# Altium schematic symbol library Schlib1.SchLib: 151 symbols (part 1 of 2)
Pins are listed as number, name and electrical type; pins without a type are passive.

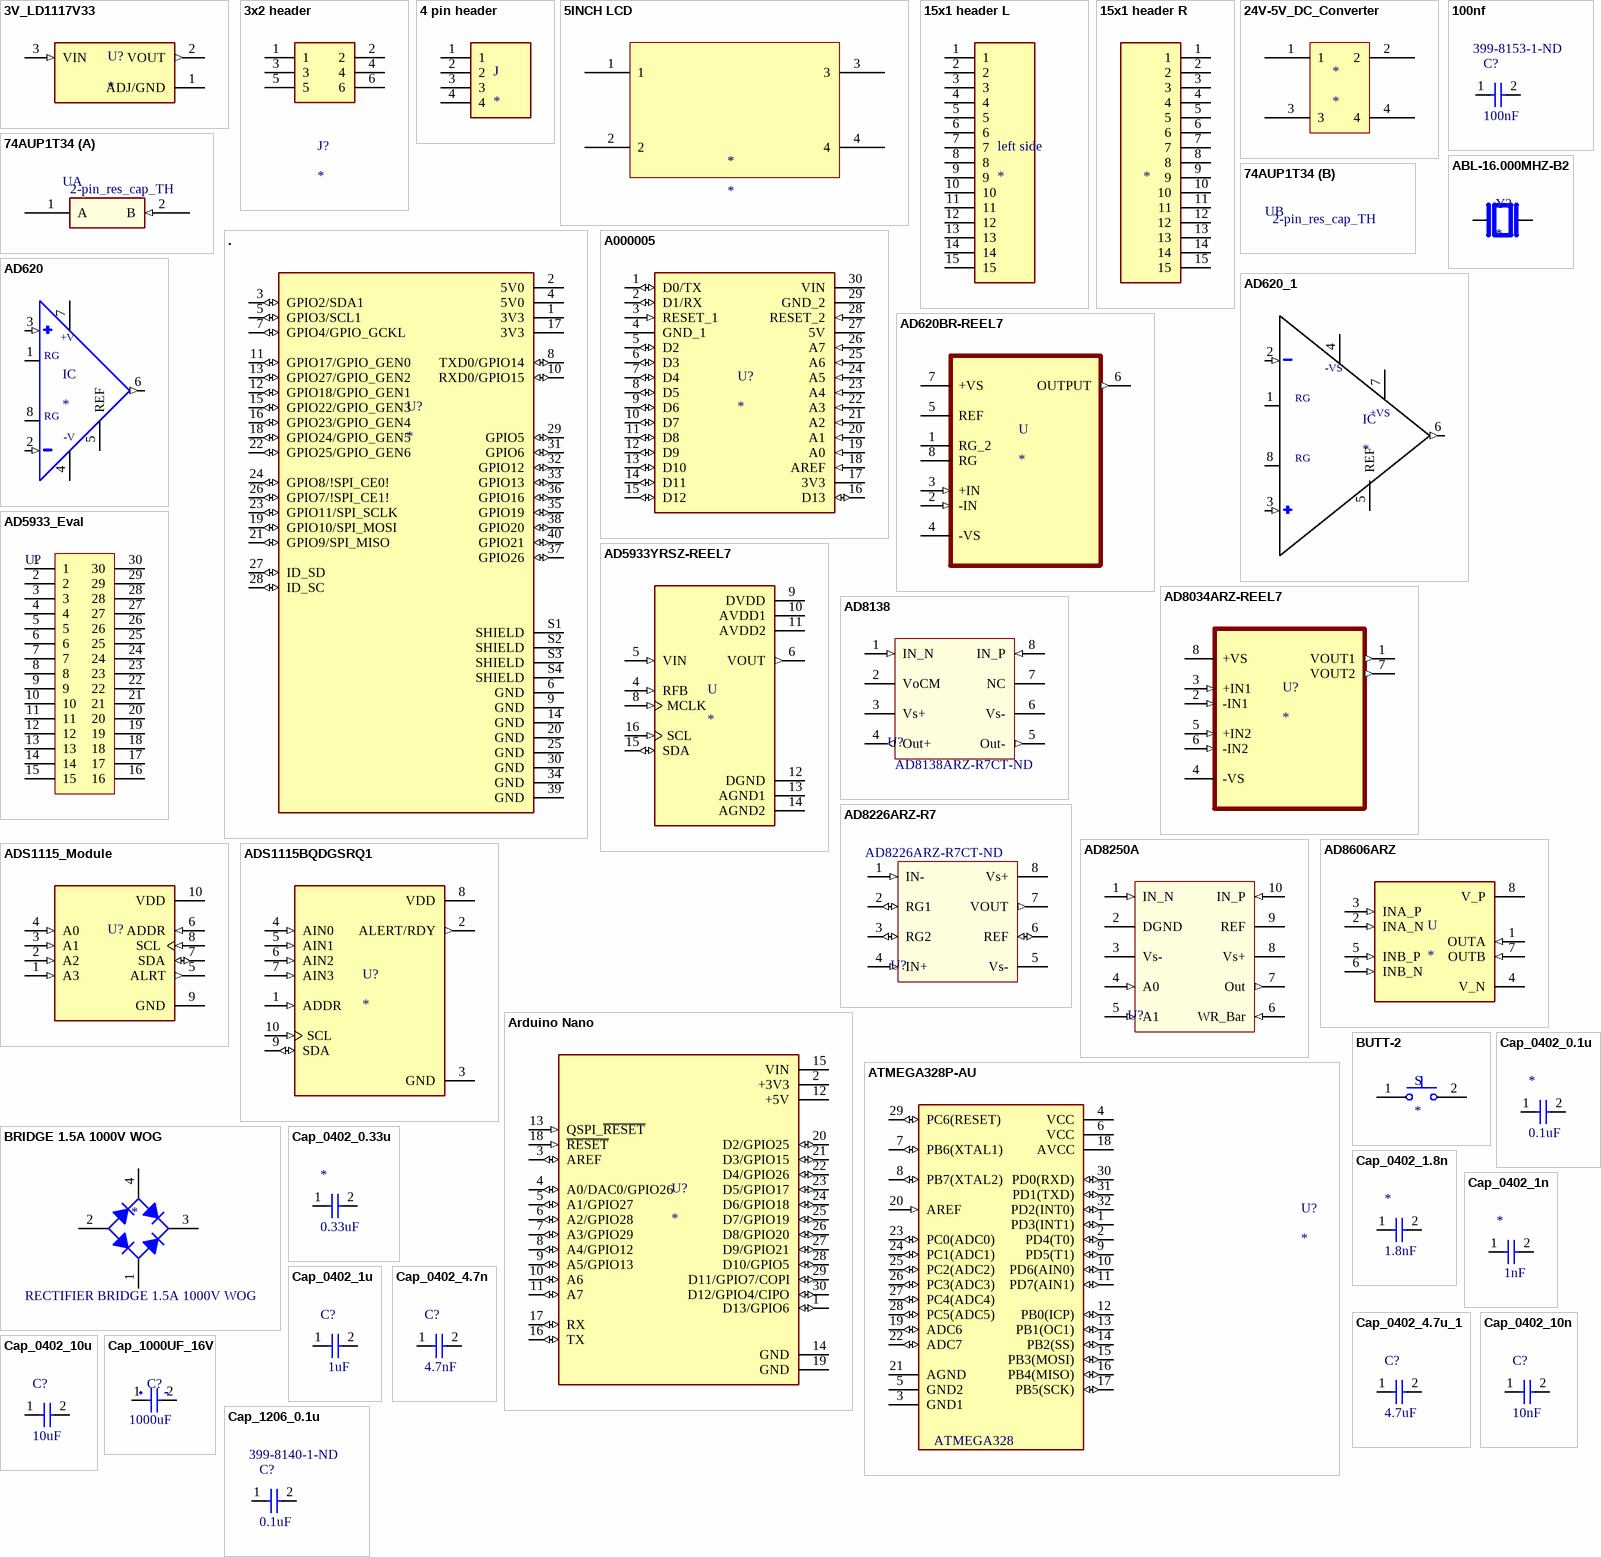
[diagram p0: symbols 3V_LD1117V33 to Cap_1206_0.1u]

## 3V_LD1117V33
designator U?
MP: LD1117V33; Package: None; Price: None; Availability: Unavailable; Value: *
footprint 3V_LD1117_TO255P1020X450X1968-3
pins: 1 ADJ/GND, 2 VOUT (out), 3 VIN (in)

## 3x2 header
designator J?
MP: 1-85829-5; Package: None; Price: None; Value: *; Availability: Unavailable
footprint 3x2 header
pins: 1, 2, 3, 4, 5, 6

## 4 pin header
designator J
TERMI-BLOK HEADER,ASSY90 4P.; MF: TE Connectivity; MP: 282822-4; SnapEDA_Link: https://www.snapeda.com/parts/282822-4/TE%20Connectivity%20AMP%20Connectors/view-part/2404770/?ref=snap; EU_RoHS_Compliance: Compliant; Value: *; DigiKey-Purchase-URL: https://snapeda.com/shop?store=DigiKey&id=2404770; Package: None; Price: None; Availability: Good; Mouser-Purchase-URL: https://snapeda.com/shop?store=Mouser&id=2404770
footprint TE_282822-4
pins: 1, 2, 3, 4

## 5INCH LCD
designator *
footprint 5 Inch LCD (AD5933_Eval)
pins: 1, 2, 3, 4

## 15x1 header L
designator left side
MP: 1-85829-5; Package: None; Price: None; Value: *; Availability: Unavailable
footprint 15x1 header
pins: 1, 2, 3, 4, 5, 6, 7, 8, 9, 10, 11, 12, 13, 14, 15

## 15x1 header R
designator ?
MP: 1-85829-5; Package: None; Price: None; Value: *; Availability: Unavailable
footprint 15x1 header
pins: 1, 2, 3, 4, 5, 6, 7, 8, 9, 10, 11, 12, 13, 14, 15

## 24V-5V_DC_Converter
designator *
footprint 12/5vDC convertor
pins: 1, 2, 3, 4

## 74AUP1T34
designator U, comment 2-pin_res_cap_TH
IC BUFFER LOW PWR N-INV 5TSSOP; Supplier 1: Digi-Key; Supplier Part Number 1: 1727-6030-1-ND; Value: 2-pin_res_cap_TH
footprint 2-pin_res_cap_TH (through hole res-cap)
part A pins: 1 A, 2 B (in)

## 100nf
designator C?, comment Supplier Part Number 1: 399-8153-1-ND  (hidden comment: 100nF)
CAP CER 10UF 6.3V X5R 1206; Supplier 1: Digi-Key; Value: 100nF
footprint 1206 (Chip Capacitor, 2-Leads, Body 3.10x1.60mm, IPC Medium Density)
pins: 1, 2

## .
designator U?
BCM2837B0 Raspberry Pi 3 Model B+ - ARMÂ® CortexÂ®-A53, VideoCore MPU Embedded Evaluation Board; MP: RASPBERRY PI 3 MODEL B+; SnapEDA_Link: https://www.snapeda.com/parts/RASPBERRY%20PI%203%20MODEL%20B+/Raspberry%20Pi/view-part/4299836/?ref=snap; Package: Raspberry Pi; MF: Raspberry Pi; Value: *; Digi-Key_Part_Number: 1690-1025-ND; Check_prices: https://www.snapeda.com/parts/RASPBERRY%20PI%203%20MODEL%20B+/Raspberry%20Pi/view-part/4299836/?ref=eda; Supplier 1: RSComponents; Supplier Part Number 1: 1373331
footprint RPi_3b_p
pins: 1 3V3 (power), 2 5V0 (power), 3 GPIO2/SDA1 (io), 4 5V0 (power), 5 GPIO3/SCL1 (io), 6 GND (power), 7 GPIO4/GPIO_GCKL (io), 8 TXD0/GPIO14 (io), 9 GND (power), 10 RXD0/GPIO15 (io), 11 GPIO17/GPIO_GEN0 (io), 12 GPIO18/GPIO_GEN1 (io), 13 GPIO27/GPIO_GEN2 (io), 14 GND (power), 15 GPIO22/GPIO_GEN3 (io), 16 GPIO23/GPIO_GEN4 (io), 17 3V3 (power), 18 GPIO24/GPIO_GEN5 (io), 19 GPIO10/SPI_MOSI (io), 20 GND (power), 21 GPIO9/SPI_MISO (io), 22 GPIO25/GPIO_GEN6 (io), 23 GPIO11/SPI_SCLK (io), 24 GPIO8/!SPI_CE0! (io), 25 GND (power), 26 GPIO7/!SPI_CE1! (io), 27 ID_SD (io), 28 ID_SC (io), 29 GPIO5 (io), 30 GND (power), 31 GPIO6 (io), 32 GPIO12 (io), 33 GPIO13 (io), 34 GND (power), 35 GPIO19 (io), 36 GPIO16 (io), 37 GPIO26 (io), 38 GPIO20 (io), 39 GND (power), 40 GPIO21 (io), S1 SHIELD (power), S2 SHIELD (power), S3 SHIELD (power), S4 SHIELD (power)

## A000005
designator U?
CLOCK SAW OSCILLATOR SEAM7050 T&; MP: A000005; Value: *; Package: None; Availability: Unavailable; Price: None
footprint MODULE_A000005
pins: 1 D0/TX (io), 2 D1/RX (io), 3 RESET_1 (in), 4 GND_1 (power), 5 D2 (io), 6 D3 (io), 7 D4 (io), 8 D5 (io), 9 D6 (io), 10 D7 (io), 11 D8 (io), 12 D9 (io), 13 D10 (io), 14 D11 (io), 15 D12 (io), 16 D13 (io), 17 3V3 (power), 18 AREF (in), 19 A0 (in), 20 A1 (in), 21 A2 (in), 22 A3 (in), 23 A4 (in), 24 A5 (in), 25 A6 (in), 26 A7 (in), 27 5V (power), 28 RESET_2 (in), 29 GND_2 (power), 30 VIN (power)

## ABL-16.000MHZ-B2
designator Y?
HC/49US (AT49) MICROPROCESSOR CRYSTAL; MP: ABL-16.000MHZ-B2; MF: Abracon; Availability: In Stock; SnapEDA_Link: https://www.snapeda.com/parts/ABL-16.000MHZ-B2/Abracon+LLC/view-part/?ref=snap; Price: None; Value: *; Check_prices: https://www.snapeda.com/parts/ABL-16.000MHZ-B2/Abracon+LLC/view-part/?ref=eda; Purchase-URL: https://pricing.snapeda.com/search/part/ABL-16.000MHZ-B2/?ref=eda; Package: HC-49/US ABRACON
footprint ABL 16mhz
pins: 1, 2

## AD620
designator IC
Instrumentation Amplifier 1 Circuit 8-SOIC; MP: AD620; MF: Analog Devices; Availability: Unavailable; Price: None; Package: TSSOP-8 Analog Devices; Value: *; SnapEDA_Link: https://www.snapeda.com/parts/AD620/Analog%20Devices%20Inc./view-part/559692/?ref=snap
footprint ad8034 SOIC127P600X175-8N
pins: 1 RG@1, 2 NEG (in), 3 POS (in), 4 -V (power), 5 REF, 6 OUT (out), 7 +V (power), 8 RG@2
text: RG

## AD620_1
designator IC
Instrumentation Amplifier 1 Circuit 8-SOIC; MP: AD620; MF: Analog Devices; Availability: Unavailable; Price: None; Package: TSSOP-8 Analog Devices; Value: *; SnapEDA_Link: https://www.snapeda.com/parts/AD620/Analog%20Devices%20Inc./view-part/559692/?ref=snap
footprint AD620_SOIC127P600X175-8N
pins: 1 RG@1, 2 NEG (in), 3 POS (in), 4 -V (power), 5 REF, 6 OUT (out), 7 +V (power), 8 RG@2
text: -VS; RG; +VS

## AD620BR-REEL7
designator U
Instrumentation Amplifier 1 Circuit 8-SOIC; MF: Analog Devices; MP: AD620BR; Price: None; Package: SOIC-8 Analog Devices; Availability: Unavailable; SnapEDA_Link: https://www.snapeda.com/parts/AD620BR/Analog%20Devices%20Inc./view-part/7466/?ref=snap; Value: *
footprint AD620_SOIC127P600X175-8N
pins: 1 RG_2, 2 -IN (in), 3 +IN (in), 4 -VS (power), 5 REF, 6 OUTPUT (out), 7 +VS (power), 8 RG

## AD5933_Eval
designator U?, comment BOARD EVALUATION FOR AD5933  (value not drawn)
AD5933 Impedance Converter Interface Evaluation Board; Value: Header 2; LatestRevisionDate: 17-Jul-2002; LatestRevisionNote: Re-released for DXP Platform.; Publisher: Altium Limited; Supplier 1: Digi-Key; Supplier Part Number 1: 505-EVAL-AD5933EBZ-ND
footprint AD5933_Eval
pins: 1, 2, 3, 4, 5, 6, 7, 8, 9, 10, 11, 12, 13, 14, 15, 16, 17, 18, 19, 20, 21, 22, 23, 24, 25, 26, 27, 28, 29, 30

## AD5933YRSZ-REEL7
designator U
Direct Digital Synthesis IC 12 b 16.776MHz Tuning 16-SSOP; MF: Analog Devices; MP: AD5933YRSZ; SnapEDA_Link: https://www.snapeda.com/parts/AD5933YRSZ/Analog%20Devices%20Inc./view-part/512306/?ref=snap; Package: SSOP-16 Analog Devices; Price: None; Availability: Unavailable; Value: *
footprint SOP65P780X200-16N
pins: 4 RFB (in), 5 VIN (in), 6 VOUT (out), 8 MCLK (in), 9 DVDD (power), 10 AVDD1 (power), 11 AVDD2 (power), 12 DGND (power), 13 AGND1 (power), 14 AGND2 (power), 15 SDA (io), 16 SCL (in)

## AD8034ARZ-REEL7
designator U?
Voltage Feedback Amplifier 2 Circuit Rail-to-Rail 8-SOIC; MF: Analog Devices; MP: AD8034ARZ; Package: SOIC-8 Analog Devices; Price: None; Availability: In Stock; Check_prices: https://www.snapeda.com/parts/AD8034ARZ/Analog%20Devices%20Inc./view-part/343726/?ref=eda; SnapEDA_Link: https://www.snapeda.com/parts/AD8034ARZ/Analog%20Devices%20Inc./view-part/343726/?ref=snap; Value: *
footprint ad8034 SOIC127P600X175-8N
pins: 1 VOUT1 (out), 2 -IN1 (in), 3 +IN1 (in), 4 -VS (power), 5 +IN2 (in), 6 -IN2 (in), 7 VOUT2 (out), 8 +VS (power)

## AD8138
designator U?  Supplier Part Number 1: AD8138ARZ-R7CT-ND
FullyDifferential Amplifier, 1 Circuit, Adjustable output common-mode voltage, MaxSupply ±5V; Supplier 1: Digi-Key
footprint AD8138 (SOIC, 8-Leads, Body 5.00x4.00mm, Pitch 1.27mm, IPC High Density)
pins: 1 IN_N (in), 2 VoCM (power), 3 Vs+ (power), 4 Out+ (out), 5 Out- (out), 6 Vs- (power), 7 NC (power), 8 IN_P (in)

## AD8226ARZ-R7
designator U?  Supplier Part Number 1: AD8226ARZ-R7CT-ND
Instrumentation Amplifier 1 Circuit Rail-to-Rail 8-SOIC; Supplier 1: Digi-Key
footprint AD8138 (SOIC, 8-Leads, Body 5.00x4.00mm, Pitch 1.27mm, IPC High Density)
pins: 1 IN- (in), 2 RG1 (io), 3 RG2 (io), 4 IN+ (in), 5 Vs- (power), 6 REF (io), 7 VOUT (out), 8 Vs+ (power)

## AD8250A
designator U?
Instrumentation Amplifier 1 Circuit Push-Pull 10-MSOP 10MHz, ±5V ~ 15V; Supplier 1: Mouser; Supplier Part Number 1: 584-AD8250ARMZ-R7
footprint AD8250A (Instrumentation Amplifier 1 Circuit Push-Pull 10-MSOP)
pins: 1 IN_N (in), 2 DGND (power), 3 Vs- (power), 4 A0 (in), 5 A1 (in), 6 WR_Bar (in), 7 Out (out), 8 Vs+ (power), 9 REF (power), 10 IN_P (in)

## AD8606ARZ
designator U
Amplificador de Uso Geral 2 Circuito Rail-to-Rail 8-SOIC; MF: Analog Devices; MP: AD8606ARZ; Value: *; Package: SOIC-8 Analog Devices; Price: None; Availability: Unavailable; SnapEDA_Link: https://www.snapeda.com/parts/AD8606ARZ/Analog%20Devices%20Inc./view-part/43414/?ref=snap
footprint SOIC127P600X175-8N
pins: 1 OUTA (in), 2 INA_N (in), 3 INA_P (in), 4 V_N (power), 5 INB_P (in), 6 INB_N (in), 7 OUTB (in), 8 V_P (power)

## ADS1115_Module
designator U?, comment ADS1115 - 16 Bit  (value not drawn)
ADS1115 - 16 Bit 860 Samples per Second Analog to Digital Converter (ADC) Evaluation Board; MP: 1085; MF: Adafruit Industries; Mouser-Purchase-URL: https://snapeda.com/shop?store=Mouser&id=378491; Availability: Warning; Price: None; Package: None; Value: *; SnapEDA_Link: https://www.snapeda.com/parts/1085/Adafruit%20Industries%20LLC/view-part/378491/?ref=snap; Supplier 1: Digi-Key; Supplier Part Number 1: 1528-1461-ND
footprint ADS1115_Module
pins: 1 A3 (in), 2 A2 (in), 3 A1 (in), 4 A0 (in), 5 ALRT (out), 6 ADDR (in), 7 SDA (io), 8 SCL (in), 9 GND (power), 10 VDD (power)

## ADS1115BQDGSRQ1
designator U?
Automotive 16-Bit 860SPS 4-Ch Delta-Sigma ADC With PGA, Oscillator, Vref, Comparator, and I2C 10-VSSOP -40 to 125; MF: Texas Instruments; MP: ADS1115BQDGSRQ1; Purchase-URL: https://pricing.snapeda.com/search/part/ADS1115BQDGSRQ1/?ref=eda; Value: *; SnapEDA_Link: https://www.snapeda.com/parts/ADS1115BQDGSRQ1/Texas%20Instruments/view-part/631441/?ref=snap; Package: VSSOP-10 Texas Instruments; Availability: Good; Price: None; Check_prices: https://www.snapeda.com/parts/ADS1115BQDGSRQ1/Texas%20Instruments/view-part/631441/?ref=eda
footprint SOP50P490X110-10N
pins: 1 ADDR (in), 2 ALERT/RDY (out), 3 GND (power), 4 AIN0 (in), 5 AIN1 (in), 6 AIN2 (in), 7 AIN3 (in), 8 VDD (power), 9 SDA (io), 10 SCL (in)

## Arduino Nano
designator U?
ARDUINO NANO RP2040 CONNECT WITH; MP: ABX00053; Package: None; Price: None; Availability: Unavailable; Value: *
footprint MODULE_ABX00053
pins: 1 D13/GPIO6 (io), 2 +3V3 (power), 3 AREF (io), 4 A0/DAC0/GPIO26 (io), 5 A1/GPIO27 (io), 6 A2/GPIO28 (io), 7 A3/GPIO29 (io), 8 A4/GPIO12 (io), 9 A5/GPIO13 (io), 10 A6 (io), 11 A7 (io), 12 +5V (power), 13 QSPI_~{RESET} (in), 14 GND (power), 15 VIN (power), 16 TX (io), 17 RX (io), 18 ~{RESET} (in), 19 GND (power), 20 D2/GPIO25 (io), 21 D3/GPIO15 (io), 22 D4/GPIO26 (io), 23 D5/GPIO17 (io), 24 D6/GPIO18 (io), 25 D7/GPIO19 (io), 26 D8/GPIO20 (io), 27 D9/GPIO21 (io), 28 D10/GPIO5 (io), 29 D11/GPIO7/COPI (io), 30 D12/GPIO4/CIPO (io)

## ATMEGA328P-AU
designator U?
ATmega Series 20 MHz 32 KB Flash 2 KB SRAM 8-Bit Microcontroller - TQFP-32; MP: ATMEGA328P-AU; Value: *; Availability: Unavailable; Price: None; Package: None
footprint ATMEGA328
pins: 1 PD3(INT1) (io), 2 PD4(T0) (io), 3 GND1 (power), 4 VCC (power), 5 GND2 (power), 6 VCC (power), 7 PB6(XTAL1) (io), 8 PB7(XTAL2) (io), 9 PD5(T1) (io), 10 PD6(AIN0) (io), 11 PD7(AIN1) (io), 12 PB0(ICP) (io), 13 PB1(OC1) (io), 14 PB2(SS) (io), 15 PB3(MOSI) (io), 16 PB4(MISO) (io), 17 PB5(SCK) (io), 18 AVCC (power), 19 ADC6 (io), 20 AREF (in), 21 AGND (power), 22 ADC7 (io), 23 PC0(ADC0) (io), 24 PC1(ADC1) (io), 25 PC2(ADC2) (io), 26 PC3(ADC3) (io), 27 PC4(ADC4) (io), 28 PC5(ADC5) (io), 29 PC6(RESET) (io), 30 PD0(RXD) (io), 31 PD1(TXD) (io), 32 PD2(INT0) (io)
text: ATMEGA328

## BRIDGE 1.5A 1000V WOG
designator *, comment RECTIFIER BRIDGE 1.5A 1000V WOG
Supplier 1: Digi-Key; Supplier Part Number 1: W10G-E4/51GI-ND; Value: RECTIFIER BRIDGE 1.5A 1000V WOG
footprint BRIDGE 1.5A 1000V WOG (Bridge Rectifier Single Phase 1000V 1.5A Through Hole WOG)
pins: 1 AC2, 2 -, 3 +, 4 AC1

## BUTT-2
designator S
Tactile Switches MINI PUSH BUTTON SWITCH 2-PIN QTY. 4; MF: Gravitech; MP: BUTT-2; Mouser-Purchase-URL: https://snapeda.com/shop?store=Mouser&id=885822; Price: None; Package: None; Value: *; SnapEDA_Link: https://www.snapeda.com/parts/BUTT-2/Gravitech/view-part/885822/?ref=snap; Availability: Warning
footprint SW_BUTT-2 pin
pins: 1, 2

## Cap_0402_0.1u
designator *, comment 0.1uF
CAP CER 0.1UF 16V X7R 0402; Supplier 1: Digi-Key; Supplier Part Number 1: 445-5613-1-ND; Value: 0.1uF
footprint 0402 (Chip Capacitor, Body 1.0x0.5mm, IPC High Density)
pins: 1, 2

## Cap_0402_0.33u
designator *, comment 0.33uF
CAP CER 0.33UF 25V X5R 0402; Supplier 1: Digi-Key; Supplier Part Number 1: 445-8018-1-ND; Value: 0.33uF
footprint 0402 (Chip Capacitor, Body 1.0x0.5mm, IPC High Density)
pins: 1, 2

## Cap_0402_1.8n
designator *, comment 1.8nF
CAP CER 1800PF 50V X7R 0402; Supplier 1: Digi-Key; Supplier Part Number 1: 311-1721-1-ND; Value: 1.8nF
footprint 0402 (Chip Capacitor, Body 1.0x0.5mm, IPC High Density)
pins: 1, 2

## Cap_0402_1n
designator *, comment 1nF
CAP CER 1000PF 25V C0G 0402; Supplier 1: Digi-Key; Supplier Part Number 1: 445-2651-1-ND; Value: 1nF
footprint 0402 (Chip Capacitor, Body 1.0x0.5mm, IPC High Density)
pins: 1, 2

## Cap_0402_1u
designator C?, comment 1uF
CAP CER 1UF 25V X5R 0402; Supplier 1: Digi-Key; Supplier Part Number 1: 445-9081-1-ND; Value: 1uF
footprint 0402 (Chip Capacitor, Body 1.0x0.5mm, IPC High Density)
pins: 1, 2

## Cap_0402_4.7n
designator C?, comment 4.7nF
CAP CER 4700PF 50V X7R 0402; Supplier 1: Digi-Key; Supplier Part Number 1: 445-5607-1-ND; Value: 4.7nF
footprint 0402 (Chip Capacitor, Body 1.0x0.5mm, IPC High Density)
pins: 1, 2

## Cap_0402_4.7u_1
designator C?, comment 4.7uF
CAP CER 4.7UF 6.3V X5R 0402; Supplier 1: Digi-Key; Supplier Part Number 1: 445-5947-1-ND; Value: 4.7uF
footprint 0402 (Chip Capacitor, Body 1.0x0.5mm, IPC High Density)
pins: 1, 2

## Cap_0402_10n
designator C?, comment 10nF
CAP CER 10000PF 100V X7S 0402; Supplier 1: Digi-Key; Supplier Part Number 1: 445-5199-1-ND; Value: 10nF
footprint 0402 (Chip Capacitor, Body 1.0x0.5mm, IPC High Density)
pins: 1, 2

## Cap_0402_10u
designator C?, comment 10uF
CAP CER 10UF 6.3V X5R 0402; Supplier 1: Digi-Key; Supplier Part Number 1: 445-8920-1-ND; Value: 10uF
footprint 0402 (Chip Capacitor, Body 1.0x0.5mm, IPC High Density)
pins: 1, 2

## Cap_1000UF_16V
designator C?, comment 1000uF
1000µF 16V Aluminum Capacitors Radial, Can 5000 Hrs @ 105°C; Supplier 1: Digi-Key; Supplier Part Number 1: P19698CT-ND; Value: 1000uF
footprint Cap_RB/5-10 (CAP ALUM 1000UF 20% 16V RADIAL_ 1000µF 16V Aluminum Capacitors Radial, Can 5000 Hrs @ 105°C)
pins: 1, 2

## Cap_1206_0.1u
designator C?, comment Supplier Part Number 1: 399-8140-1-ND  (hidden comment: 0.1uF)
CAP CER 0.1UF 16V X7R 1206; Supplier 1: Digi-Key; Value: 0.1uF
footprint 1206 (Chip Capacitor, 2-Leads, Body 3.10x1.60mm, IPC Medium Density)
pins: 1, 2

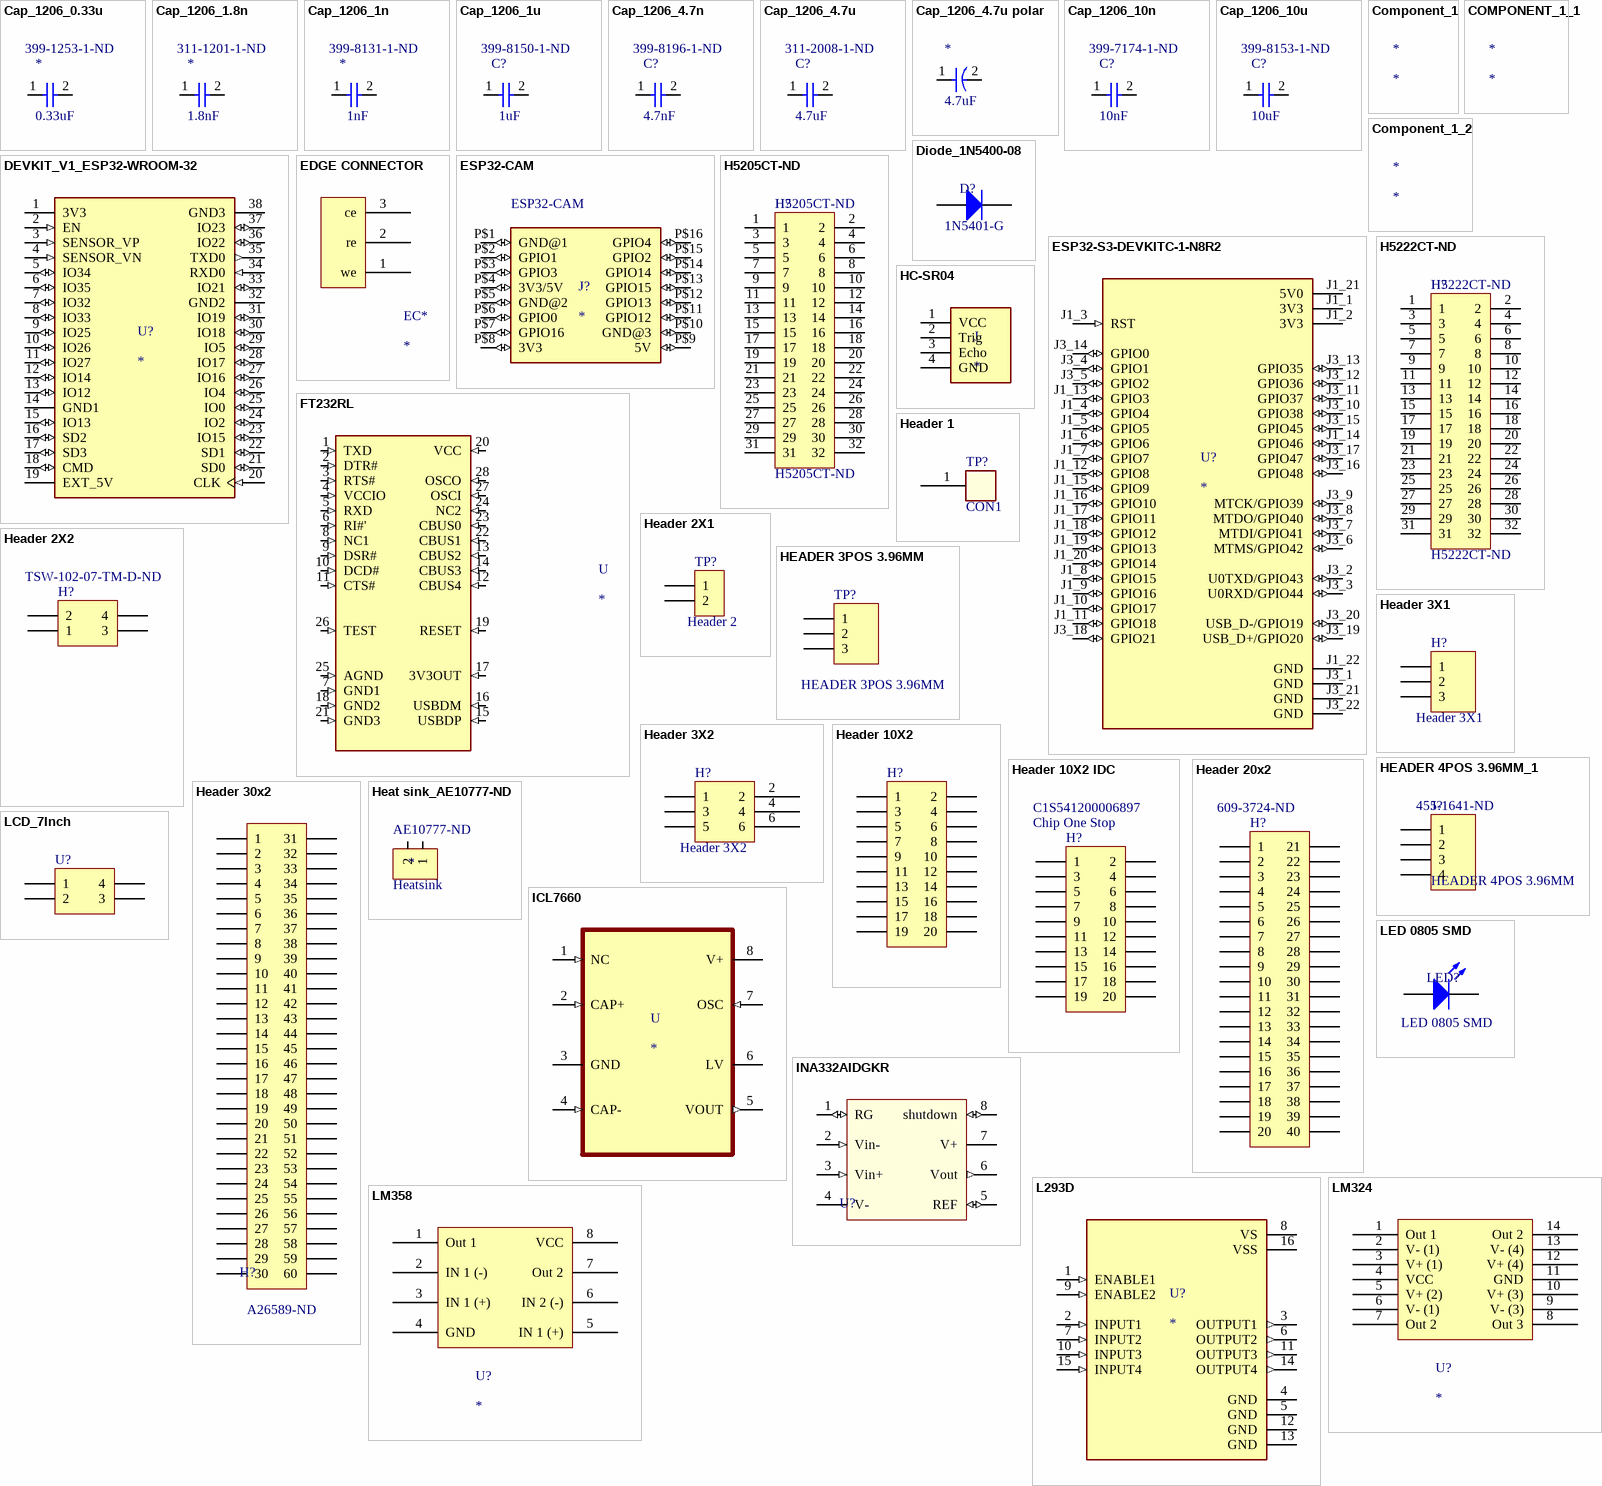
[diagram p1: symbols Cap_1206_0.33u to LM358]

## Cap_1206_0.33u
designator *, comment Supplier Part Number 1: 399-1253-1-ND  (hidden comment: 0.33uF)
CAP CER 0.33UF 25V X5R 1206; Supplier 1: Digi-Key; Value: 0.33uF
footprint 1206 (Chip Capacitor, 2-Leads, Body 3.10x1.60mm, IPC Medium Density)
pins: 1, 2

## Cap_1206_1.8n
designator *, comment Supplier Part Number 1: 311-1201-1-ND  (hidden comment: 1.8nF)
CAP CER 1800PF 50V X7R 1206; Supplier 1: Digi-Key; Value: 1.8nF
footprint 1206 (Chip Capacitor, 2-Leads, Body 3.10x1.60mm, IPC Medium Density)
pins: 1, 2

## Cap_1206_1n
designator *, comment Supplier Part Number 1: 399-8131-1-ND  (hidden comment: 1nF)
CAP CER 1000PF 25V C0G 1206; Supplier 1: Digi-Key; Value: 1nF
footprint 1206 (Chip Capacitor, 2-Leads, Body 3.10x1.60mm, IPC Medium Density)
pins: 1, 2

## Cap_1206_1u
designator C?, comment Supplier Part Number 1: 399-8150-1-ND  (hidden comment: 1uF)
CAP CER 1UF 25V X5R 1206; Supplier 1: Digi-Key; Value: 1uF
footprint 1206 (Chip Capacitor, 2-Leads, Body 3.10x1.60mm, IPC Medium Density)
pins: 1, 2

## Cap_1206_4.7n
designator C?, comment Supplier Part Number 1: 399-8196-1-ND  (hidden comment: 4.7nF)
CAP CER 4700PF 50V X7R 1206; Supplier 1: Digi-Key; Value: 4.7nF
footprint 1206 (Chip Capacitor, 2-Leads, Body 3.10x1.60mm, IPC Medium Density)
pins: 1, 2

## Cap_1206_4.7u
designator C?, comment Supplier Part Number 1: 311-2008-1-ND  (hidden comment: 4.7uF)
CAP CER 4.7UF 6.3V X5R 1206; Supplier 1: Digi-Key; Value: 4.7uF
footprint 1206 (Chip Capacitor, 2-Leads, Body 3.10x1.60mm, IPC Medium Density)
pins: 1, 2

## Cap_1206_4.7u polar
designator *, comment 4.7uF
CAP CER 0.1UF 16V X7R 0402; Supplier 1: Digi-Key; Supplier Part Number 1: 445-5613-1-ND; Value: 4.7uF
footprint 1206 (Chip Capacitor, 2-Leads, Body 3.10x1.60mm, IPC Medium Density)
pins: 1, 2

## Cap_1206_10n
designator C?, comment Supplier Part Number 1: 399-7174-1-ND  (hidden comment: 10nF)
CAP CER 10000PF 100V X7S 1206; Supplier 1: Digi-Key; Value: 10nF
footprint 1206 (Chip Capacitor, 2-Leads, Body 3.10x1.60mm, IPC Medium Density)
pins: 1, 2

## Cap_1206_10u
designator C?, comment Supplier Part Number 1: 399-8153-1-ND  (hidden comment: 10uF)
CAP CER 10UF 6.3V X5R 1206; Supplier 1: Digi-Key; Value: 10uF
footprint 1206 (Chip Capacitor, 2-Leads, Body 3.10x1.60mm, IPC Medium Density)
pins: 1, 2

## Component_1
designator *

## COMPONENT_1_1
designator *

## Component_1_2
designator *

## DEVKIT_V1_ESP32-WROOM-32
designator U?
WROOM-32 Development Board ESP32 ESP-32S WiFi Bluetooth Dev Module; MF: Espressif Systems; MP: DEVKIT V1 ESP32-WROOM-32; SnapEDA_Link: https://www.snapeda.com/parts/DEVKIT%20V1%20ESP32-WROOM-32/Espressif+Systems/view-part/?ref=snap; Package: Package; Value: *; Check_prices: https://www.snapeda.com/parts/DEVKIT%20V1%20ESP32-WROOM-32/Espressif+Systems/view-part/?ref=eda
footprint MODULE_DEVKIT_V1_ESP32-WROOM-32
pins: 1 3V3 (power), 2 EN (in), 3 SENSOR_VP (in), 4 SENSOR_VN (in), 5 IO34 (io), 6 IO35 (io), 7 IO32 (io), 8 IO33 (io), 9 IO25 (io), 10 IO26 (io), 11 IO27 (io), 12 IO14 (io), 13 IO12 (io), 14 GND1 (power), 15 IO13 (io), 16 SD2 (io), 17 SD3 (io), 18 CMD (io), 19 EXT_5V (power), 20 CLK (in), 21 SD0 (io), 22 SD1 (io), 23 IO15 (io), 24 IO2 (io), 25 IO0 (io), 26 IO4 (io), 27 IO16 (io), 28 IO17 (io), 29 IO5 (io), 30 IO18 (io), 31 IO19 (io), 32 GND2 (power), 33 IO21 (io), 34 RXD0 (in), 35 TXD0 (out), 36 IO22 (io), 37 IO23 (io), 38 GND3 (power)

## Diode_1N5400-08
designator D?, comment 1N5401-G
Diode Standard 100V 3A Through Hole DO-27 (DO-201AD); Supplier 1: Digi-Key; Supplier Part Number 1: 641-1314-1-ND; Value: 1N5401-G
footprint 1N5401-G_DO-27 (DO-201AD)
pins: 1 A, 2 K

## EDGE CONNECTOR
designator EC*
footprint EDGE CONNECTOR (SWITCH TOGGLE DPDT 50MA 48V Toggle Switch DPDT Through Hole)
pins: 1 we, 2 re, 3 ce

## ESP32-CAM
designator J?
ESP32 ESP32 Transceiver; 802.11 a/b/g/n (Wi-Fi, WiFi, WLAN), BluetoothÂ® Smart 4.x Low Energy (BLE) Evaluation Board; MF: AI-Thinker; MP: ESP32-CAM; SnapEDA_Link: https://www.snapeda.com/parts/ESP32-CAM/AI-Thinker/view-part/?ref=snap; Package: None; Value: *; Check_prices: https://www.snapeda.com/parts/ESP32-CAM/AI-Thinker/view-part/?ref=eda
footprint ESP32-CAM
pins: P$1 GND@1 (io), P$2 GPIO1 (io), P$3 GPIO3 (io), P$4 3V3/5V (io), P$5 GND@2 (io), P$6 GPIO0 (io), P$7 GPIO16 (io), P$8 3V3 (io), P$9 5V (io), P$10 GND@3 (io), P$11 GPIO12 (io), P$12 GPIO13 (io), P$13 GPIO15 (io), P$14 GPIO14 (io), P$15 GPIO2 (io), P$16 GPIO4 (io)

## ESP32-S3-DEVKITC-1-N8R2
designator U?
WiFi Development Tools - 802.11 (Engineering Samples Only) ESP32-S3 General-Purpose Development Board, ESP32-S3-WROOM-1-N8R2, with Pin Header; MF: Espressif Systems; MP: ESP32-S3-DEVKITC-1-N8R2; SnapEDA_Link: https://www.snapeda.com/parts/ESP32-S3-DEVKITC-1-N8R2/Espressif+Systems/view-part/?ref=snap; Package: None; Value: *; Check_prices: https://www.snapeda.com/parts/ESP32-S3-DEVKITC-1-N8R2/Espressif+Systems/view-part/?ref=eda
footprint XCVR_ESP32-S3-DEVKITC-1-N8R2
pins: J1_1 3V3 (power), J1_2 3V3 (power), J1_3 RST (in), J1_4 GPIO4 (io), J1_5 GPIO5 (io), J1_6 GPIO6 (io), J1_7 GPIO7 (io), J1_8 GPIO15 (io), J1_9 GPIO16 (io), J1_10 GPIO17 (io), J1_11 GPIO18 (io), J1_12 GPIO8 (io), J1_13 GPIO3 (io), J1_14 GPIO46 (io), J1_15 GPIO9 (io), J1_16 GPIO10 (io), J1_17 GPIO11 (io), J1_18 GPIO12 (io), J1_19 GPIO13 (io), J1_20 GPIO14 (io), J1_21 5V0 (power), J1_22 GND (power), J3_1 GND (power), J3_2 U0TXD/GPIO43 (io), J3_3 U0RXD/GPIO44 (io), J3_4 GPIO1 (io), J3_5 GPIO2 (io), J3_6 MTMS/GPIO42 (io), J3_7 MTDI/GPIO41 (io), J3_8 MTDO/GPIO40 (io), J3_9 MTCK/GPIO39 (io), J3_10 GPIO38 (io), J3_11 GPIO37 (io), J3_12 GPIO36 (io), J3_13 GPIO35 (io), J3_14 GPIO0 (io), J3_15 GPIO45 (io), J3_16 GPIO48 (io), J3_17 GPIO47 (io), J3_18 GPIO21 (io), J3_19 USB_D+/GPIO20 (io), J3_20 USB_D-/GPIO19 (io), J3_21 GND (power), J3_22 GND (power)

## FT232RL
designator U
USB Bridge, USB to UART USB 2.0 UART Interface 28-SSOP; MP: FT232RL; MF: FTDI, Future; SnapEDA_Link: https://www.snapeda.com/parts/FT232RL/FTDI%2C%20Future%20Technology%20Devices%20International%20Ltd/view-part/1077088/?ref=snap; Package: SSOP-28 FTDI, Future; Price: None; Value: *; Availability: Unavailable
footprint ft232rl
pins: 1 TXD (in), 2 DTR# (in), 3 RTS# (in), 4 VCCIO (in), 5 RXD (in), 6 RI#' (in), 7 GND1 (in), 8 NC1 (in), 9 DSR# (in), 10 DCD# (in), 11 CTS# (in), 12 CBUS4 (in), 13 CBUS2 (in), 14 CBUS3 (in), 15 USBDP (in), 16 USBDM (in), 17 3V3OUT (in), 18 GND2 (in), 19 RESET (in), 20 VCC (in), 21 GND3 (in), 22 CBUS1 (in), 23 CBUS0 (in), 24 NC2 (in), 25 AGND (in), 26 TEST (in), 27 OSCI (in), 28 OSCO (in)

## H5205CT-ND
designator H?
CONN RCPT 32POS SMD GOLD Center Strip Contacts; LatestRevisionDate: 17-Jul-2002; LatestRevisionNote: Re-released for DXP Platform.; Publisher: Altium Limited; Supplier 1: Digi-Key; Value: H5205CT-ND; Supplier Part Number 1: H5205CT-ND
footprint H5205CT-ND (32 Position Connector Receptacle, Center Strip Contacts Surface Mount Gold)
pins: 1, 2, 3, 4, 5, 6, 7, 8, 9, 10, 11, 12, 13, 14, 15, 16, 17, 18, 19, 20, 21, 22, 23, 24, 25, 26, 27, 28, 29, 30, 31, 32

## H5222CT-ND
designator H?
CONN HDR 32POS SMD GOLD OUTER SHROUD; LatestRevisionDate: 17-Jul-2002; LatestRevisionNote: Re-released for DXP Platform.; Publisher: Altium Limited; Supplier 1: Digi-Key; Value: H5222CT-ND; Supplier Part Number 1: H5222CT-ND
footprint H5222CT-ND (3 32 Position Connector Header, Outer Shroud Contacts Surface Mount Gold)
pins: 1, 2, 3, 4, 5, 6, 7, 8, 9, 10, 11, 12, 13, 14, 15, 16, 17, 18, 19, 20, 21, 22, 23, 24, 25, 26, 27, 28, 29, 30, 31, 32

## HC-SR04
designator J
TERMI-BLOK HEADER,ASSY90 4P.; MF: TE Connectivity; MP: 282822-4; SnapEDA_Link: https://www.snapeda.com/parts/282822-4/TE%20Connectivity%20AMP%20Connectors/view-part/2404770/?ref=snap; EU_RoHS_Compliance: Compliant; Value: *; DigiKey-Purchase-URL: https://snapeda.com/shop?store=DigiKey&id=2404770; Package: None; Price: None; Availability: Good; Mouser-Purchase-URL: https://snapeda.com/shop?store=Mouser&id=2404770
footprint TE_282822-4
pins: 1 VCC, 2 Trig, 3 Echo, 4 GND

## Header 1
designator TP?, comment CON1
CONN HEADER 1POS .100" SINGL TIN; Supplier 1: Digi-Key; Supplier Part Number 1: SAM1035-01-ND; Value: CON1
footprint CON1 (Connector; Header; 1 Position)
pins: 1

## Header 2X1
designator TP?, comment Header 2
CONN HEADER 2POS .100" SINGL TIN; LatestRevisionDate: 17-Jul-2002; LatestRevisionNote: Re-released for DXP Platform.; Publisher: Altium Limited; Supplier 1: Digi-Key; Supplier Part Number 1: SAM1035-02-ND; Value: Header 2
footprint HDR1X2 (Connector; Header; 2 Position)
pins: 1, 2

## Header 2X2
designator H?  Supplier Part Number 1: TSW-102-07-TM-D-ND
Header, 4-Pin, Dual row; LatestRevisionDate: 17-Jul-2002; LatestRevisionNote: Re-released for DXP Platform.; Publisher: Altium Limited; Supplier 1: Digi-Key
footprint WM12841-ND (CONN HEADER VERT 4POS 3.5MM)
pins: 1, 2, 3, 4

## HEADER 3POS 3.96MM
designator TP?
CONN HEADER VH TOP 3POS 3.96MM_3 Positions Header, Unshrouded Connector 0.156" (3.96mm) Through Hole Tin; Supplier 1: Digi-Key; Supplier Part Number 1: 455-1640-ND; Value: HEADER 3POS 3.96MM
footprint HEADER 3POS 3.96MM (CONN HEADER VH TOP 3POS 3.96MM_3 Positions Header, Unshrouded Connector 0.156" (3.96mm) Through Hole Tin)
pins: 1, 2, 3

## Header 3X1
designator H?
CONN HEADER 3POS .100" SINGL TIN; LatestRevisionDate: 17-Jul-2002; LatestRevisionNote: Re-released for DXP Platform.; Publisher: Altium Limited; Supplier 1: Digi-Key; Supplier Part Number 1: SAM1035-03-ND; Value: Header 3X1
footprint HDR1X3 (Connector; Header; 3 Position)
pins: 1, 2, 3

## Header 3X2
designator H?
CONN HEADER 3POS .100" SINGL TIN; LatestRevisionDate: 17-Jul-2002; LatestRevisionNote: Re-released for DXP Platform.; Publisher: Altium Limited; Supplier 1: Digi-Key; Supplier Part Number 1: SAM1035-03-ND; Value: Header 3X2
footprint HDR3X2 (Connector; Header; 10x2 Position)
pins: 1, 2, 3, 4, 5, 6

## HEADER 4POS 3.96MM_1
designator J?, comment HEADER 4POS 3.96MM  Supplier Part Number 1: 455-1641-ND
CONN HEADER VH TOP 4POS 3.96MM_4 Positions Header, Unshrouded Connector 0.156" (3.96mm) Through Hole Tin; Supplier 1: Digi-Key
footprint HDR1X4_ST_Shrd_0.156" (4 Positions Header Connector 0.156" (3.96mm) Through Hole Tin)
pins: 1, 2, 3, 4

## Header 10X2
designator H?
Header, 10-Pin, Dual row; LatestRevisionDate: 17-Jul-2002; LatestRevisionNote: Re-released for DXP Platform.; Publisher: Altium Limited
footprint HDR2X10 (Connector; Header; 10x2 Position)
pins: 1, 2, 3, 4, 5, 6, 7, 8, 9, 10, 11, 12, 13, 14, 15, 16, 17, 18, 19, 20

## Header 10X2 IDC
designator H?  Supplier 1: Chip One Stop  Supplier Part Number 1: C1S541200006897
Header, 10-Pin, Dual row; LatestRevisionDate: 17-Jul-2002; LatestRevisionNote: Re-released for DXP Platform.; Publisher: Altium Limited
footprint HDR2X10_IDC (Connector; IDC Header; 10x2 Position)
pins: 1, 2, 3, 4, 5, 6, 7, 8, 9, 10, 11, 12, 13, 14, 15, 16, 17, 18, 19, 20

## Header 20x2
designator H?  Supplier Part Number 1: 609-3724-ND
Header, 20-Pin, Dual row; LatestRevisionDate: 17-Jul-2002; LatestRevisionNote: Re-released for DXP Platform.; Publisher: Altium Limited; Supplier 1: Digi-Key
footprint 609-3724-ND (CONN HEADER VERT 40POS 1.27MM)
pins: 1, 2, 3, 4, 5, 6, 7, 8, 9, 10, 11, 12, 13, 14, 15, 16, 17, 18, 19, 20, 21, 22, 23, 24, 25, 26, 27, 28, 29, 30, 31, 32, 33, 34, 35, 36, 37, 38, 39, 40

## Header 30x2
designator H?  Supplier Part Number 1: A26589-ND
Header, 30-Pin, Dual row; Supplier 1: Digi-Key
footprint HDR2X30 (Connector; Header; 30x2 Position)
pins: 1, 2, 3, 4, 5, 6, 7, 8, 9, 10, 11, 12, 13, 14, 15, 16, 17, 18, 19, 20, 21, 22, 23, 24, 25, 26, 27, 28, 29, 30, 31, 32, 33, 34, 35, 36, 37, 38, 39, 40, 41, 42, 43, 44, 45, 46, 47, 48, 49, 50, 51, 52, 53, 54, 55, 56, 57, 58, 59, 60

## Heat sink_AE10777-ND
designator *, comment Supplier Part Number 1: AE10777-ND  (hidden comment: Heatsink)
HEATSINK ANOD ALUM TO-220; Supplier 1: Digi-Key; Value: Heatsink
footprint HEATSINK_TO-220_V4330N (Heat Sink TO-220 Aluminum Top Mount)
pins: 1, 2

## ICL7660
designator U
MP: ICL7660CPAZ; MF: Intersil; Mouser-Purchase-URL: https://snapeda.com/shop?store=Mouser&id=580216; Price: None; SnapEDA_Link: https://www.snapeda.com/parts/ICL7660CPAZ/Intersil/view-part/580216/?ref=snap; Availability: Good; Value: *; DigiKey-Purchase-URL: https://snapeda.com/shop?store=DigiKey&id=580216; Package: DIP-8 Intersil
footprint DIP254P762X533-8
pins: 1 NC (in), 2 CAP+ (in), 3 GND, 4 CAP- (in), 5 VOUT (out), 6 LV, 7 OSC (in), 8 V+ (power)

## INA332AIDGKR
designator U?
Instrumentation Amplifier 1 Circuit Rail-to-Rail 8-VSSOP; Supplier Part Number 1: 296-41265-1-ND; Supplier 1: Digi-Key
footprint AD8138 (SOIC, 8-Leads, Body 5.00x4.00mm, Pitch 1.27mm, IPC High Density)
pins: 1 RG (io), 2 Vin- (in), 3 Vin+ (in), 4 V- (power), 5 REF (io), 6 Vout (out), 7 V+ (power), 8 shutdown (io)

## L293D
designator U?
Bipolar Motor Driver - Parallel 16-PowerDIP; MP: L293D; MF: STMicroelectronics; Package: DIP-16 STMicroelectronics; SnapEDA_Link: https://www.snapeda.com/parts/L293D/STMicroelectronics/view-part/?ref=snap; Purchase-URL: https://pricing.snapeda.com/search/part/L293D/?ref=eda; Check_prices: https://www.snapeda.com/parts/L293D/STMicroelectronics/view-part/?ref=eda; Availability: In Stock; Value: *; Price: None
footprint DIP880W50P254L2000H510Q16
pins: 1 ENABLE1 (in), 2 INPUT1 (in), 3 OUTPUT1 (out), 4 GND (power), 5 GND (power), 6 OUTPUT2 (out), 7 INPUT2 (in), 8 VS (power), 9 ENABLE2 (in), 10 INPUT3 (in), 11 OUTPUT3 (out), 12 GND (power), 13 GND (power), 14 OUTPUT4 (out), 15 INPUT4 (in), 16 VSS (power)

## LCD_7Inch
designator U?, comment LCD 7Inch HDMI Touch  (value not drawn)
footprint LCD_7Inch (RPi LCD_7Inch)
pins: 1, 2, 3, 4

## LED 0805 SMD
designator LED?
Green 571nm LED Indication - Discrete 2V 0805 (2012 Metric); Supplier 1: Digi-Key; Supplier Part Number 1: 160-1426-1-ND; Value: LED 0805 SMD
footprint LED 0805 SMD (Chip Diode, 2-Leads, Body 2.00x1.25mm, IPC Medium Density)
pins: 1 A, 2 K

## LM324
designator U?
footprint LM324
pins: 1 Out 1, 2 V- (1), 3 V+ (1), 4 VCC, 5 V+ (2), 6 V- (1), 7 Out 2, 8 Out 3, 9 V- (3), 10 V+ (3), 11 GND, 12 V+ (4), 13 V- (4), 14 Out 2

## LM358
designator U?
footprint LM324
pins: 1 Out 1, 2 IN 1 (-), 3 IN 1 (+), 4 GND, 5 IN 1 (+), 6 IN 2 (-), 7 Out 2, 8 VCC

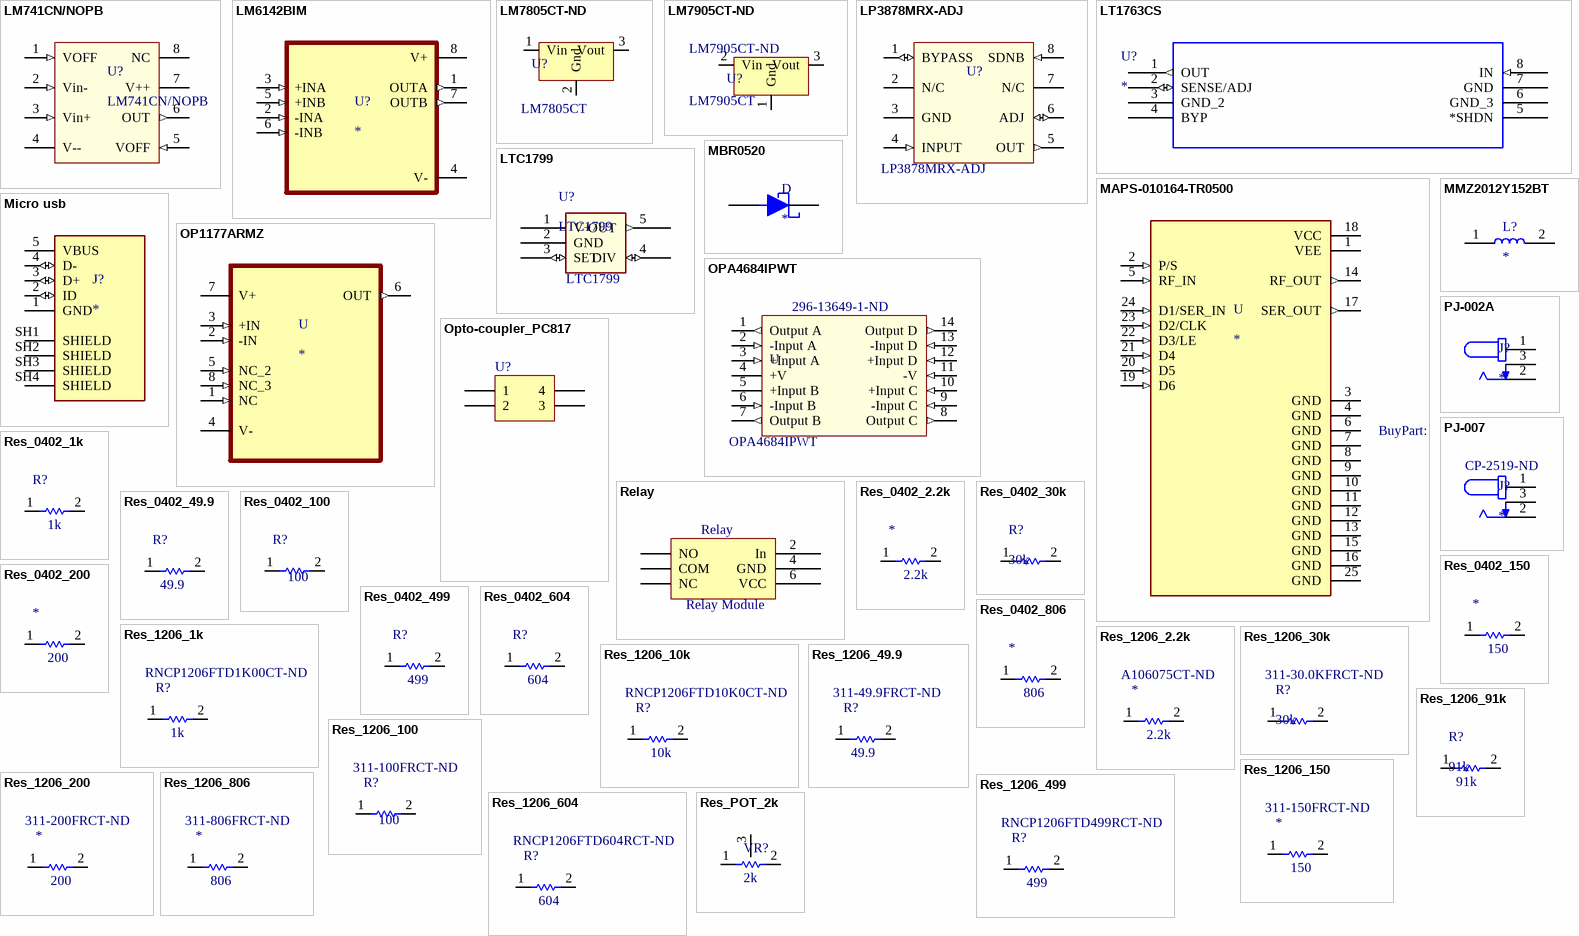
[diagram p2: symbols LM741CN/NOPB to Res_POT_2k]

## LM741CN/NOPB
designator U?
IC OPAMP GP 1 CIRCUIT 8DIP; Value: LM741CN/NOPB; Supplier 1: Digi-Key; Supplier Part Number 1: LM741CNNS/NOPB-ND
footprint LM741CN_NOPB
pins: 1 VOFF (in) "Offset null", 2 Vin- (in) "Inverting signal input", 3 Vin+ (in) "Non-Inverting signal input", 4 V-- (power) "Negative supply voltage", 5 VOFF (in) "Offset null", 6 OUT (out) "Amplified signal output", 7 V++ (power) "Positive supply voltage", 8 NC "No Connect"

## LM6142BIM
designator U?
MP: LM6142BIM/NOPB; Package: None; Price: None; Value: *; Availability: Unavailable
footprint LM6142_SOIC127P599X175-8N
pins: 1 OUTA (out), 2 -INA (in), 3 +INA (in), 4 V- (power), 5 +INB (in), 6 -INB (in), 7 OUTB (out), 8 V+ (power)

## LM7805CT-ND
designator U?, comment LM7805CT
IC REG LDO 5V 1A TO220-3_ Linear Voltage Regulator IC Positive Fixed 1 Output 5V 1A TO-220AB; Supplier 1: Digi-Key; Supplier Part Number 1: LM7805CT-ND; Value: LM7805CT
footprint TO-220-AB
pins: 1 Vin, 2 Gnd, 3 Vout

## LM7905CT-ND
designator U?, comment Supplier Part Number 1: LM7905CT-ND  (hidden comment: LM7905CT)
IC REG LDO -5V 1A TO220-3_ Linear Voltage Regulator IC Positive Fixed 1 Output -5V 1A TO-220AB; Supplier 1: Digi-Key; Value: LM7905CT
footprint TO-220-AB
pins: 1 Gnd, 2 Vin, 3 Vout

## LP3878MRX-ADJ
designator U?
Linear Voltage Regulator IC Positive Adjustable 1 Output 1 V ~ 5.5 V 800mA 8-SO PowerPad; Supplier 1: Digi-Key; Supplier Part Number 1: LP3878MRX-ADJ/NOPBCT-ND; Value: LP3878MRX-ADJ
footprint LP3878MRX-ADJ/NOPBCT-ND (Linear Voltage Regulator IC Positive Adjustable 1 Output 1 V ~ 5.5 V 800mA 8-SO PowerPad)
pins: 1 BYPASS (io), 2 N/C, 3 GND, 4 INPUT (in), 5 OUT (out), 6 ADJ (io), 7 N/C, 8 SDNB (in)

## LT1763CS
designator U?
MP: LT1763CS8#TRPBF; Package: None; Price: None; Value: *; Availability: Unavailable
footprint LT 1763
pins: 1 OUT (out), 2 SENSE/ADJ (io), 3 GND_2 (power), 4 BYP, 5 *SHDN, 6 GND_3 (power), 7 GND (power), 8 IN (in)

## LTC1799
designator U?
Oscillator, Silicon IC 1kHz ~ 33MHz TSOT-23-5; Supplier 1: Digi-Key; Supplier Part Number 1: LTC1799HS5#TRPBFCT-ND; Value: LTC1799
footprint LTC1799HS5 (Oscillator, Silicon IC 1kHz ~ 33MHz TSOT-23-5)
pins: 1 V+ (power), 2 GND (power), 3 SET (io), 4 DIV (io), 5 OUT (out)

## MAPS-010164-TR0500
designator U
RF IC Phase Shifter Radar 2.3GHz ~ 3.8GHz 24-PQFN (4x4); MP: MAPS-010164-TR0500; MF: M/A-Com Technology; Value: *; SnapEDA_Link: https://www.snapeda.com/parts/MAPS-010164-TR0500/M/A-Com%20Technology%20Solutions/view-part/556305/?ref=snap; Availability: Warning; Package: PQFN-24 MA-COM; Mouser-Purchase-URL: https://snapeda.com/shop?store=Mouser&id=556305; Price: None
footprint QFN50P400X400X100-25N
pins: 1 VEE (power), 2 P/S (in), 3 GND (power), 4 GND (power), 5 RF_IN (in), 6 GND (power), 7 GND (power), 8 GND (power), 9 GND (power), 10 GND (power), 11 GND (power), 12 GND (power), 13 GND (power), 14 RF_OUT (out), 15 GND (power), 16 GND (power), 17 SER_OUT (out), 18 VCC (power), 19 D6 (in), 20 D5 (in), 21 D4 (in), 22 D3/LE (in), 23 D2/CLK (in), 24 D1/SER_IN (in), 25 GND (power)

## MBR0520
designator D
Diode Schottky 20V 500mA Surface Mount SOD-123; MF: ON Semiconductor; MP: MBR0520; Package: SOD-123 International Rectifier; Price: None; SnapEDA_Link: https://www.snapeda.com/parts/MBR0520/ON%20Semiconductor/view-part/564242/?ref=snap; Availability: Unavailable; Value: *
footprint MBR0520
pins: 1 CA, 2 AN

## Micro usb
designator J?
MINI USB, R/A, 2.0 TYPE B, RCPT, SMD; USB Connector Type:Mini USB Type B; USB Standard:USB 2.0; Gender:Receptacle; No. of Positions:5Positions; Connector Mounting:Surface Mount; Orientation:Right Angle; Contact Material:Copper Alloy RoHS Compliant: Yes; MP: 10033526N3212LF; MF: Amphenol; Package: None; Availability: In Stock; Value: *; Price: None; SnapEDA_Link: https://www.snapeda.com/parts/10033526N3212LF/Amphenol/view-part/?ref=snap; Check_prices: https://www.snapeda.com/parts/10033526N3212LF/Amphenol/view-part/?ref=eda
footprint Microusb
pins: 1 GND (power), 2 ID (io), 3 D+ (io), 4 D- (io), 5 VBUS (power), SH1 SHIELD, SH2 SHIELD, SH3 SHIELD, SH4 SHIELD

## MMZ2012Y152BT
designator L?
1.5 kOhms @ 100MHz 1 Signal Line Ferrite Bead 0805 _2012 Metric_ 500mA 400mOhm; MP: MMZ2012Y152BT; MF: TDK; Package: 0805 TDK; Availability: Unavailable; Price: None; SnapEDA_Link: https://www.snapeda.com/parts/MMZ2012Y152BT/TDK/view-part/492010/?ref=snap; Value: *
footprint INDC2012X87N
pins: 1, 2

## OP1177ARMZ
designator U
General Purpose Amplifier 1 Circuit 8-MSOP; MP: OP1177ARMZ-REEL; MF: Analog Devices; SnapEDA_Link: https://www.snapeda.com/parts/OP1177ARMZ-REEL/Analog%20Devices%20Inc./view-part/648963/?ref=snap; Digi-Key_Purchase_URL: https://www.digikey.kr/product-detail/en/analog-devices-inc/OP1177ARMZ-REEL/OP1177ARMZ-REELCT-ND/820442?utm_source=snapeda&utm_medium=aggregator&utm_campaign=symbol; Digi-Key_Part_Number: OP1177ARMZ-REELCT-ND; Value: *; Package: MSOP-8 Analog Devices
footprint SOP65P490X110-8N
pins: 1 NC (in), 2 -IN (in), 3 +IN (in), 4 V- (power), 5 NC_2 (in), 6 OUT (out), 7 V+ (power), 8 NC_3 (in)

## OPA4684IPWT
designator U  Supplier Part Number 1: 296-13649-1-ND  (hidden comment: OPA4684IPWT)
Current Feedback Amplifier 4 Circuit 14-TSSOP; Supplier 1: Digi-Key; Value: OPA4684IPWT
footprint OPA4684IPWT (TSOP, 14-Leads, Body 5.00x4.40mm, Pitch 0.65mm, IPC Medium Density)
pins: 1 Output A (out), 2 -Input A (in), 3 +Input A (in), 4 +V, 5 +Input B, 6 -Input B (in), 7 Output B (out), 8 Output C (out), 9 -Input C (in), 10 +Input C (in), 11 -V (in), 12 +Input D (in), 13 -Input D (in), 14 Output D (out)

## Opto-coupler_PC817
designator U?
opto coupler; LatestRevisionDate: 17-Jul-2002; LatestRevisionNote: Re-released for DXP Platform.; Publisher: Altium Limited
footprint Opto-coupler_PC817
pins: 1, 2, 3, 4

## PJ-002A
designator J?
2.0 mm Center Pin, 2.5 A, Right Angle, Through Hole, Dc Power Jack Connector; MP: PJ-002A; Value: *; Availability: Unavailable; Price: None; Package: None
footprint CUI_PJ-002A
pins: 1, 2, 3

## PJ-007
designator J?  Supplier Part Number 1: CP-2519-ND
1.3 x 4.2 mm, 2.0 A, Horizontal, Through Hole, Dc Power Jack Connector; MP: PJ-007; MF: CUI Devices; Availability: Unavailable; SnapEDA_Link: https://www.snapeda.com/parts/PJ-007/CUI%20Devices/view-part/260682/?ref=snap; Price: None; Value: *; Package: None; CUI_purchase_URL: https://www.cuidevices.com/product/interconnect/connectors/dc-power-connectors/jacks/pj-007?utm_source=snapeda.com&utm_medium=referral&utm_campaign=snapedaBOM; Supplier 1: Digi-Key
footprint PJ-007
pins: 1, 2, 3

## Relay
designator Relay, comment Relay Module
CONN HEADER 3POS .100" SINGL TIN; LatestRevisionDate: 17-Jul-2002; LatestRevisionNote: Re-released for DXP Platform.; Publisher: Altium Limited; Supplier 1: Digi-Key; Supplier Part Number 1: SAM1035-03-ND; Value: Relay Module
footprint HDR3X2 (Connector; Header; 10x2 Position)
pins: 1 NO, 2 In, 3 COM, 4 GND, 5 NC, 6 VCC

## Res_0402_1k
designator R?, comment 1k
RES SMD 1k OHM 5% 1/10W 0402; Supplier 1: Digi-Key; Supplier Part Number 1: P1.0KJCT-ND; Value: 1k
footprint 0402 (Chip Capacitor, Body 1.0x0.5mm, IPC High Density)
pins: 1, 2

## Res_0402_2.2k
designator *, comment 2.2k
RES SMD 2.2k OHM 1% 1/10W 0402; Supplier 1: Digi-Key; Supplier Part Number 1: P2.20KLCT-ND; Value: 2.2k
footprint 0402 (Chip Capacitor, Body 1.0x0.5mm, IPC High Density)
pins: 1, 2

## Res_0402_30k
designator R?, comment 30k
RES SMD 30k OHM 1% 1/10W 0402; Supplier 1: Mouser; Supplier Part Number 1: 667-ERJ-2RKF3002X; Value: 30k
footprint 0402 (Chip Capacitor, Body 1.0x0.5mm, IPC High Density)
pins: 1, 2

## Res_0402_49.9
designator R?, comment 49.9
RES SMD 49.9 OHM 1% 1/10W 0402; Supplier 1: Digi-Key; Supplier Part Number 1: P49.9LCT-ND; Value: 49.9
footprint 0402 (Chip Capacitor, Body 1.0x0.5mm, IPC High Density)
pins: 1, 2

## Res_0402_100
designator R?, comment 100
RES SMD 100 OHM 5% 1/10W 0402; Supplier 1: Digi-Key; Supplier Part Number 1: P100JCT-ND; Value: 100
footprint 0402 (Chip Capacitor, Body 1.0x0.5mm, IPC High Density)
footprint 0402 (Chip Capacitor, Body 1.0x0.5mm, IPC High Density)
pins: 1, 2

## Res_0402_150
designator *, comment 150
RES SMD 150 OHM 1% 1/10W 0402; Supplier 1: Digi-Key; Supplier Part Number 1: P150LCT-ND; Value: 150
footprint 0402 (Chip Capacitor, Body 1.0x0.5mm, IPC High Density)
pins: 1, 2

## Res_0402_200
designator *, comment 200
RES SMD 200 OHM 1% 1/10W 0402; Supplier 1: Digi-Key; Supplier Part Number 1: P200LCT-ND; Value: 200
footprint 0402 (Chip Capacitor, Body 1.0x0.5mm, IPC High Density)
pins: 1, 2

## Res_0402_499
designator R?, comment 499
RES SMD 499 OHM 1% 1/10W 0402; Supplier 1: Digi-Key; Supplier Part Number 1: P499LCT-ND; Value: 499
footprint 0402 (Chip Capacitor, Body 1.0x0.5mm, IPC High Density)
pins: 1, 2

## Res_0402_604
designator R?, comment 604
RES SMD 604 OHM 1% 1/10W 0402; Supplier 1: Digi-Key; Supplier Part Number 1: P604LCT-ND; Value: 604
footprint 0402 (Chip Capacitor, Body 1.0x0.5mm, IPC High Density)
pins: 1, 2

## Res_0402_806
designator *, comment 806
RES SMD 806 OHM 1% 1/10W 0402; Supplier 1: Digi-Key; Supplier Part Number 1: P806LCT-ND; Value: 806
footprint 0402 (Chip Capacitor, Body 1.0x0.5mm, IPC High Density)
pins: 1, 2

## Res_1206_1k
designator R?, comment Supplier Part Number 1: RNCP1206FTD1K00CT-ND  (hidden comment: 1k)
RES SMD 1k OHM 5% 1/10W 1206; Supplier 1: Digi-Key; Value: 1k
footprint 1206 (Chip Capacitor, 2-Leads, Body 3.10x1.60mm, IPC Medium Density)
pins: 1, 2

## Res_1206_2.2k
designator *, comment Supplier Part Number 1: A106075CT-ND  (hidden comment: 2.2k)
RES SMD 2.2k OHM 1% 1/10W 1206; Supplier 1: Digi-Key; Value: 2.2k
footprint 1206 (Chip Capacitor, 2-Leads, Body 3.10x1.60mm, IPC Medium Density)
pins: 1, 2

## Res_1206_10k
designator R?, comment Supplier Part Number 1: RNCP1206FTD10K0CT-ND  (hidden comment: 10k)
RES SMD 10k OHM 5% 1/10W 1206; Supplier 1: Digi-Key; Value: 10k
footprint 1206 (Chip Capacitor, 2-Leads, Body 3.10x1.60mm, IPC Medium Density)
pins: 1, 2

## Res_1206_30k
designator R?, comment 30k  Supplier Part Number 1: 311-30.0KFRCT-ND
RES SMD 30k OHM 1% 1/10W 1206; Value: 30k; Supplier 1: Digi-Key
footprint 1206 (Chip Capacitor, 2-Leads, Body 3.10x1.60mm, IPC Medium Density)
pins: 1, 2

## Res_1206_49.9
designator R?, comment Supplier Part Number 1: 311-49.9FRCT-ND  (hidden comment: 49.9)
RES SMD 49.9 OHM 1% 1/10W 1206; Supplier 1: Digi-Key; Value: 49.9
footprint 1206 (Chip Capacitor, 2-Leads, Body 3.10x1.60mm, IPC Medium Density)
pins: 1, 2

## Res_1206_91k
designator R?, comment 91k
RES SMD 91k OHM 1% 1/4W 1206; Supplier Part Number 1: P91.0KFCT-ND; Supplier 1: Digi-Key; Value: 91k
footprint 1206 (Chip Capacitor, 2-Leads, Body 3.10x1.60mm, IPC Medium Density)
pins: 1, 2

## Res_1206_100
designator R?, comment Supplier Part Number 1: 311-100FRCT-ND  (hidden comment: 100)
RES SMD 100 OHM 5% 1/10W 1206; Supplier 1: Digi-Key; Value: 100
footprint 1206 (Chip Capacitor, 2-Leads, Body 3.10x1.60mm, IPC Medium Density)
pins: 1, 2

## Res_1206_150
designator *, comment Supplier Part Number 1: 311-150FRCT-ND  (hidden comment: 150)
RES SMD 150 OHM 1% 1/10W 1206; Supplier 1: Digi-Key; Value: 150
footprint 1206 (Chip Capacitor, 2-Leads, Body 3.10x1.60mm, IPC Medium Density)
pins: 1, 2

## Res_1206_200
designator *, comment Supplier Part Number 1: 311-200FRCT-ND  (hidden comment: 200)
RES SMD 200 OHM 1% 1/10W 1206; Supplier 1: Digi-Key; Value: 200
footprint 1206 (Chip Capacitor, 2-Leads, Body 3.10x1.60mm, IPC Medium Density)
pins: 1, 2

## Res_1206_499
designator R?, comment Supplier Part Number 1: RNCP1206FTD499RCT-ND  (hidden comment: 499)
RES SMD 499 OHM 1% 1/10W 1206; Supplier 1: Digi-Key; Value: 499
footprint 1206 (Chip Capacitor, 2-Leads, Body 3.10x1.60mm, IPC Medium Density)
pins: 1, 2

## Res_1206_604
designator R?, comment Supplier Part Number 1: RNCP1206FTD604RCT-ND  (hidden comment: 604)
RES SMD 604 OHM 1% 1/10W 1206; Supplier 1: Digi-Key; Value: 604
footprint 1206 (Chip Capacitor, 2-Leads, Body 3.10x1.60mm, IPC Medium Density)
pins: 1, 2

## Res_1206_806
designator *, comment Supplier Part Number 1: 311-806FRCT-ND  (hidden comment: 806)
RES SMD 806 OHM 1% 1/10W 1206; Supplier 1: Digi-Key; Value: 806
footprint 1206 (Chip Capacitor, 2-Leads, Body 3.10x1.60mm, IPC Medium Density)
pins: 1, 2

## Res_POT_2k
designator VR?, comment 2k
TRIMMER 2k OHM 0.125W SMD; Supplier 1: Digi-Key; Supplier Part Number 1: 3223W-1-202EDKR-ND; Value: 2k
footprint POT-3223W (Potentiometer)
pins: 1, 2, 3

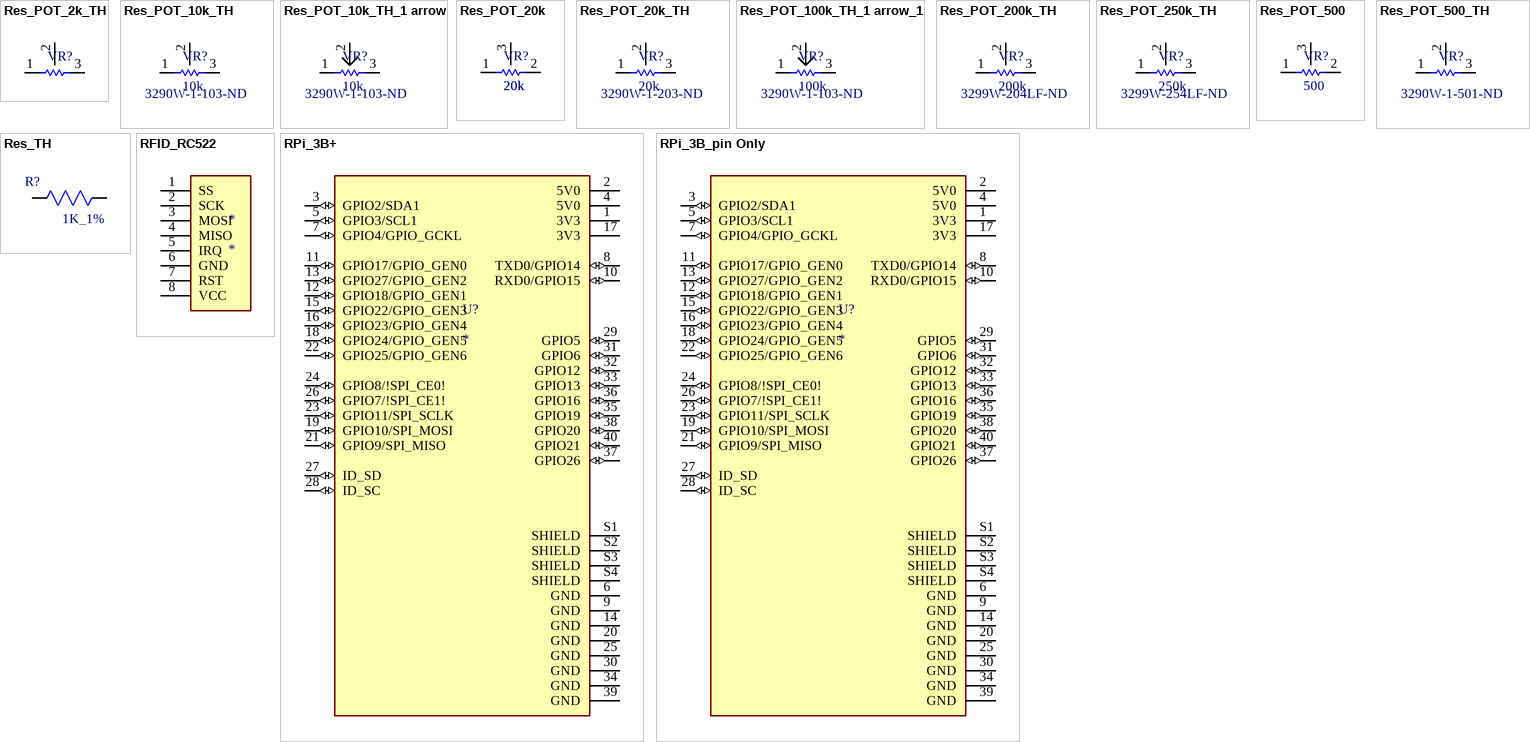
[diagram p3: symbols Res_POT_2k_TH to RPi_3B_pin Only]

## Res_POT_2k_TH
designator VR?, comment 2k  (value not drawn)
2 kOhms 1W PC Pins Through Hole Trimmer Potentiometer Wirewound 25 Turn Top Adjustment; Supplier 1: Digi-Key; Supplier Part Number 1: 3290W-1-202-ND
footprint 3299W (STD POT 25 Turns)
pins: 1, 2, 3

## Res_POT_10k_TH
designator VR?, comment 10k  Supplier Part Number 1: 3290W-1-103-ND
10 kOhms 1W PC Pins Through Hole Trimmer Potentiometer Wirewound 25 Turn Top Adjustment; Supplier 1: Digi-Key
footprint 3290W (STD POT 25 Turns)
pins: 1, 2, 3

## Res_POT_10k_TH_1 arrow
designator VR?, comment 10k  Supplier Part Number 1: 3290W-1-103-ND
10 kOhms 1W PC Pins Through Hole Trimmer Potentiometer Wirewound 25 Turn Top Adjustment; Supplier 1: Digi-Key
footprint 3299W (STD POT 25 Turns)
pins: 1, 2, 3

## Res_POT_20k
designator VR?, comment 20k
TRIMMER 20k OHM 0.125W SMD; Supplier 1: Digi-Key; Supplier Part Number 1: 3223W-1-203ECT-ND; Value: 20k
footprint POT-3223W (Potentiometer)
pins: 1, 2, 3

## Res_POT_20k_TH
designator VR?, comment 20k  Supplier Part Number 1: 3290W-1-203-ND
20 kOhms 1W PC Pins Through Hole Trimmer Potentiometer Wirewound 25 Turn Top Adjustment; Supplier 1: Digi-Key
footprint 3290W (STD POT 25 Turns)
pins: 1, 2, 3

## Res_POT_100k_TH_1 arrow_1
designator VR?, comment 100k  Supplier Part Number 1: 3290W-1-103-ND
10 kOhms 1W PC Pins Through Hole Trimmer Potentiometer Wirewound 25 Turn Top Adjustment; Supplier 1: Digi-Key
footprint 3299W (STD POT 25 Turns)
pins: 1, 2, 3

## Res_POT_200k_TH
designator VR?, comment 200k  Supplier Part Number 1: 3299W-204LF-ND
200 kOhms 0.5W, 1/2W PC Pins Through Hole Trimmer Potentiometer Cermet 25 Turn Top Adjustment; Supplier 1: Digi-Key
footprint 3299W (STD POT 25 Turns)
pins: 1, 2, 3

## Res_POT_250k_TH
designator VR?, comment 250k  Supplier Part Number 1: 3299W-254LF-ND
250 kOhms 0.5W, 1/2W PC Pins Through Hole Trimmer Potentiometer Cermet 25 Turn Top Adjustment; Supplier 1: Digi-Key
footprint 3299W (STD POT 25 Turns)
pins: 1, 2, 3

## Res_POT_500
designator VR?, comment 500
TRIMMER 500 OHM 0.125W SMD; Supplier 1: Digi-Key; Supplier Part Number 1: 3223W-1-501EDKR-ND; Value: 500
footprint POT-3223W
pins: 1, 2, 3

## Res_POT_500_TH
designator VR?, comment Supplier Part Number 1: 3290W-1-501-ND  (hidden comment: 500)
500 Ohms 1W PC Pins Through Hole Trimmer Potentiometer Wirewound 25 Turn Top Adjustment; Supplier 1: Digi-Key
footprint 3290W (STD POT 25 Turns)
pins: 1, 2, 3

## Res_TH
designator R?, comment value 1K_1%  (hidden comment: Through Hole Resistor 1/4 W)
footprint RES_TH (Resistor Through hole)
signal-integrity model Model Name (Model Description)
pins: 1, 2

## RFID_RC522
designator *
pins: 1 SS, 2 SCK, 3 MOSI, 4 MISO, 5 IRQ, 6 GND, 7 RST, 8 VCC

## RPi_3B+
designator U?
BCM2837B0 Raspberry Pi 3 Model B+ - ARMÂ® CortexÂ®-A53, VideoCore MPU Embedded Evaluation Board; MP: RASPBERRY PI 3 MODEL B+; SnapEDA_Link: https://www.snapeda.com/parts/RASPBERRY%20PI%203%20MODEL%20B+/Raspberry%20Pi/view-part/4299836/?ref=snap; Package: Raspberry Pi; MF: Raspberry Pi; Value: *; Digi-Key_Part_Number: 1690-1025-ND; Check_prices: https://www.snapeda.com/parts/RASPBERRY%20PI%203%20MODEL%20B+/Raspberry%20Pi/view-part/4299836/?ref=eda; Supplier 1: RSComponents; Supplier Part Number 1: 1373331
footprint RPi_3b_p
pins: 1 3V3 (power), 2 5V0 (power), 3 GPIO2/SDA1 (io), 4 5V0 (power), 5 GPIO3/SCL1 (io), 6 GND (power), 7 GPIO4/GPIO_GCKL (io), 8 TXD0/GPIO14 (io), 9 GND (power), 10 RXD0/GPIO15 (io), 11 GPIO17/GPIO_GEN0 (io), 12 GPIO18/GPIO_GEN1 (io), 13 GPIO27/GPIO_GEN2 (io), 14 GND (power), 15 GPIO22/GPIO_GEN3 (io), 16 GPIO23/GPIO_GEN4 (io), 17 3V3 (power), 18 GPIO24/GPIO_GEN5 (io), 19 GPIO10/SPI_MOSI (io), 20 GND (power), 21 GPIO9/SPI_MISO (io), 22 GPIO25/GPIO_GEN6 (io), 23 GPIO11/SPI_SCLK (io), 24 GPIO8/!SPI_CE0! (io), 25 GND (power), 26 GPIO7/!SPI_CE1! (io), 27 ID_SD (io), 28 ID_SC (io), 29 GPIO5 (io), 30 GND (power), 31 GPIO6 (io), 32 GPIO12 (io), 33 GPIO13 (io), 34 GND (power), 35 GPIO19 (io), 36 GPIO16 (io), 37 GPIO26 (io), 38 GPIO20 (io), 39 GND (power), 40 GPIO21 (io), S1 SHIELD (power), S2 SHIELD (power), S3 SHIELD (power), S4 SHIELD (power)

## RPi_3B_pin Only
designator U?
BCM2837B0 Raspberry Pi 3 Model B+ - ARMÂ® CortexÂ®-A53, VideoCore MPU Embedded Evaluation Board; MP: RASPBERRY PI 3 MODEL B+; SnapEDA_Link: https://www.snapeda.com/parts/RASPBERRY%20PI%203%20MODEL%20B+/Raspberry%20Pi/view-part/4299836/?ref=snap; Package: Raspberry Pi; MF: Raspberry Pi; Value: *; Digi-Key_Part_Number: 1690-1025-ND; Check_prices: https://www.snapeda.com/parts/RASPBERRY%20PI%203%20MODEL%20B+/Raspberry%20Pi/view-part/4299836/?ref=eda; Supplier 1: RSComponents; Supplier Part Number 1: 1373331
footprint RPi_3b_pin only
pins: 1 3V3 (power), 2 5V0 (power), 3 GPIO2/SDA1 (io), 4 5V0 (power), 5 GPIO3/SCL1 (io), 6 GND (power), 7 GPIO4/GPIO_GCKL (io), 8 TXD0/GPIO14 (io), 9 GND (power), 10 RXD0/GPIO15 (io), 11 GPIO17/GPIO_GEN0 (io), 12 GPIO18/GPIO_GEN1 (io), 13 GPIO27/GPIO_GEN2 (io), 14 GND (power), 15 GPIO22/GPIO_GEN3 (io), 16 GPIO23/GPIO_GEN4 (io), 17 3V3 (power), 18 GPIO24/GPIO_GEN5 (io), 19 GPIO10/SPI_MOSI (io), 20 GND (power), 21 GPIO9/SPI_MISO (io), 22 GPIO25/GPIO_GEN6 (io), 23 GPIO11/SPI_SCLK (io), 24 GPIO8/!SPI_CE0! (io), 25 GND (power), 26 GPIO7/!SPI_CE1! (io), 27 ID_SD (io), 28 ID_SC (io), 29 GPIO5 (io), 30 GND (power), 31 GPIO6 (io), 32 GPIO12 (io), 33 GPIO13 (io), 34 GND (power), 35 GPIO19 (io), 36 GPIO16 (io), 37 GPIO26 (io), 38 GPIO20 (io), 39 GND (power), 40 GPIO21 (io), S1 SHIELD (power), S2 SHIELD (power), S3 SHIELD (power), S4 SHIELD (power)

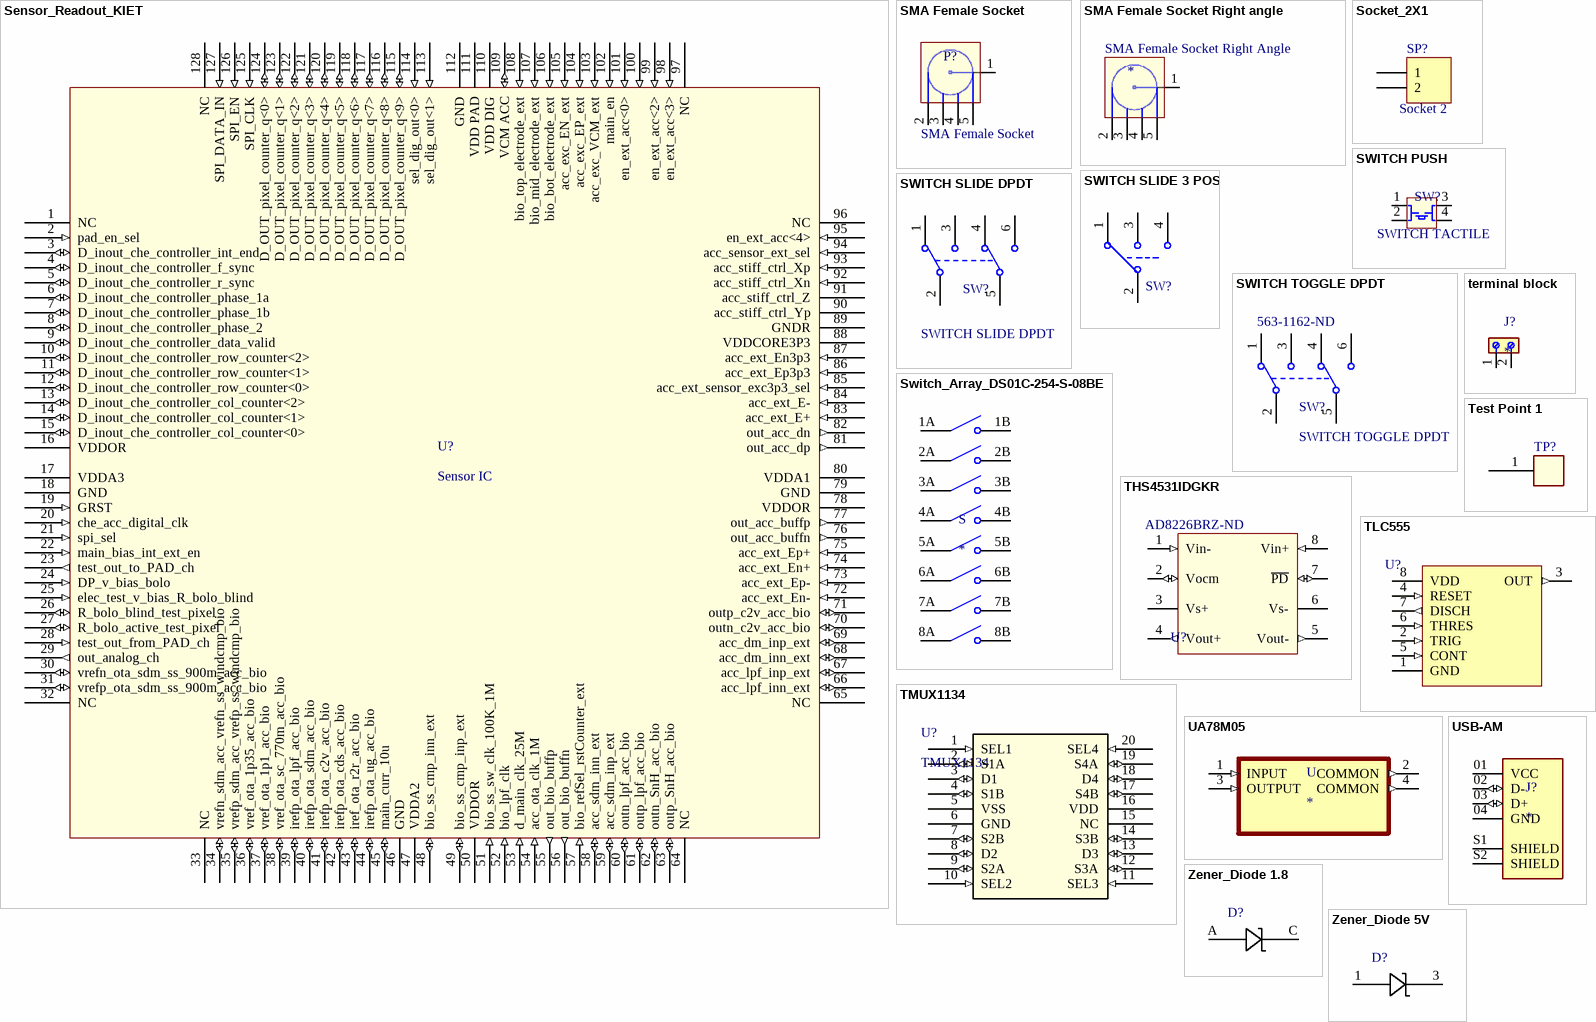
[diagram p4: symbols Sensor_Readout_KIET to Zener_Diode 5V]